# Altium footprint library Vertical Switching Board.PcbLib: 7 footprints
Each footprint in its own frame and in the unit in brackets; x right, y up, seen from the top. Pads: shape width x height; smd on the part's side, far side on the other; paste and mask are expansions set on the pad; w line width, h text height; cw(c..) or ccw(c..) is an arc to the next point about the centre after c.
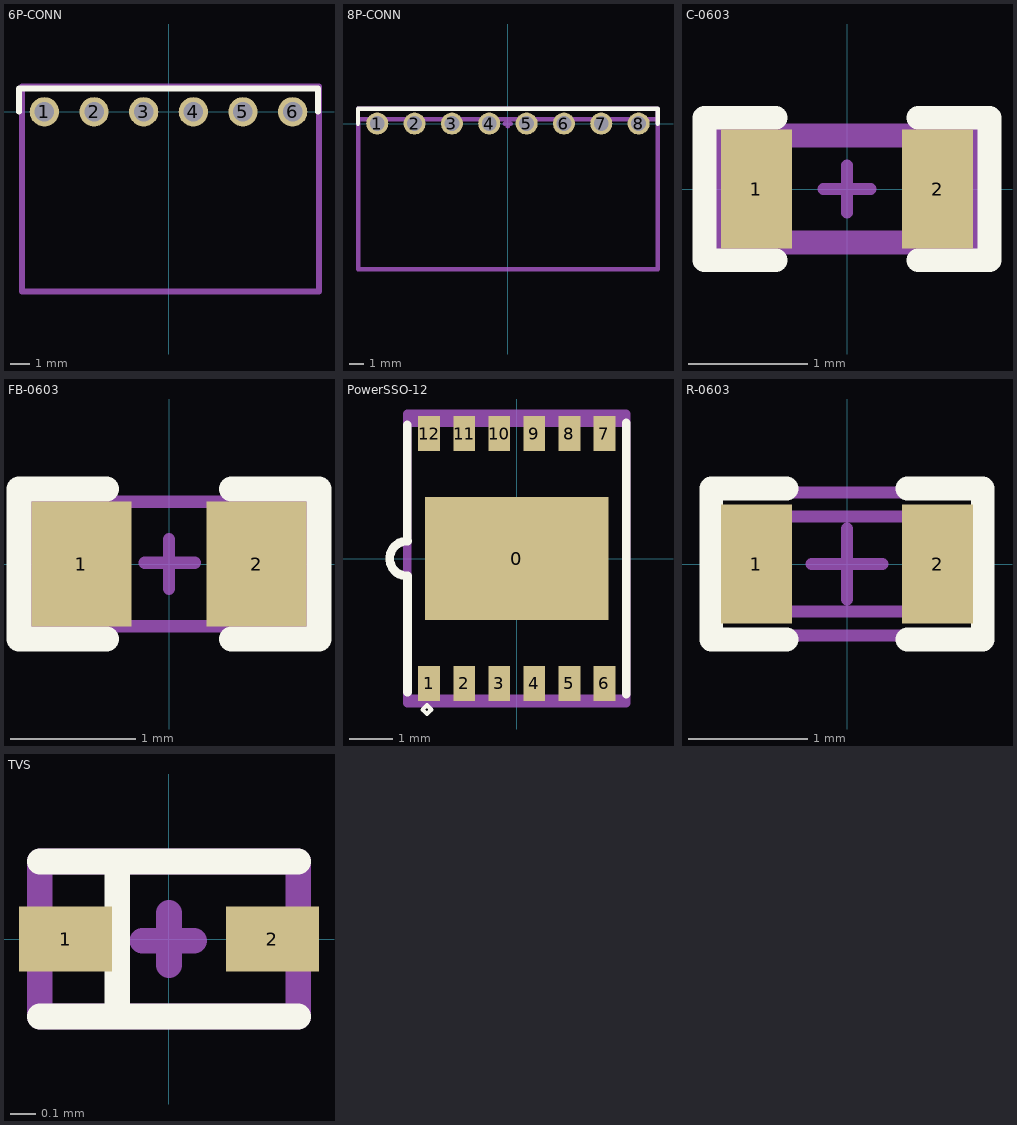
[diagram p0: the footprints below, top view; thin cyan lines are the x and y axes]

## 6P-CONN [mm]
pads (6):
  round 1.5 hole 1 mask+0.005: 1(-6.35,0) 2(-3.81,0) 3(-1.27,0) 4(1.27,0) 5(3.81,0) 6(6.35,0)
Top Overlay:
  lines w0.3: -7.65,0 -7.65,1.2 7.65,1.2 7.65,0
Top 3D Body:
  lines w0.3: -7.5,-9.2 7.7,-9.2 7.7,1.3 -7.5,1.3 -7.5,-9.2
Top Component Center:
  lines w0.3: -7.5,-9.2 -7.5,1.3 7.7,1.3 7.7,-9.2 -7.5,-9.2
Top Designator:
  lines w0.3: -7.5,-9.2 -7.5,1.3 7.7,1.3 7.7,-9.2 -7.5,-9.2
  text ".Designator" at -11.05,-1.617 h2.5
3D body "022287060.stp": height 4.79, standoff -2.57, extent -7.62,-9.169 7.62,1.245

## 8P-CONN [mm]
pads (8):
  round 1.5 hole 1 mask+0.005: 1(-8.89,0) 2(-6.35,0) 3(-3.81,0) 4(-1.27,0) 5(1.27,0) 6(3.81,0) 7(6.35,0) 8(8.89,0)
Top Overlay:
  lines w0.3: -10.2,0 -10.2,1 10.2,1 10.2,0
Top 3D Body:
  lines w0.3: -10.19,-9.9 -10.19,0.3 10.21,0.3 10.21,-9.9 -10.19,-9.9
Top Component Center:
  lines w0.3: -0.205,-0.009 0.195,-0.009 ; 0,-0.2 0,0.2 ; -10.2,-9.9 -10.2,1 10.2,1 10.2,-9.9 -10.2,-9.9
Top Designator:
  lines w0.3: -10.2,-9.9 -10.2,1 10.2,1 10.2,-9.9 -10.2,-9.9
  text ".Designator" at -11.35,3.083 h2.5
3D body "_ _ _C008SBAN-M71RC.STEP": height 4.29, standoff -1.3, extent -10.19,-9.88 10.13,0.3

## C-0603 [mm]
pads (2):
  rect 0.6x1 smd mask+0.005: 1(-0.762,0) 2(0.762,0)
Top Overlay:
  lines w0.2: -0.6,-0.6 -1.2,-0.6 -1.2,0.6 -0.6,0.6 ; 0.6,-0.6 1.2,-0.6 1.2,0.6 0.6,0.6
Top 3D Body:
  lines w0.1: -0.8,-0.4 -0.8,0.4 0.8,0.4 0.8,-0.4 -0.8,-0.4
Top Component Center:
  lines w0.1: -0.2,0 0.2,0 ; 0,-0.2 0,0.2 ; -1.1,-0.5 -1.1,0.5 1.1,0.5 1.1,-0.5 -1.1,-0.5
Top Designator:
  lines w0.1: -1.1,-0.5 1.1,-0.5 1.1,0.5 -1.1,0.5 -1.1,-0.5
  text ".Designator" at -0.55,-0.017 h0.1
3D body "User Library-CR1608-0603.STEP": height 0.45, standoff 0, extent -0.8,-0.4 0.8,0.4

## FB-0603 [mm]
pads (2):
  rect 0.8x1 smd mask+0.005: 1(-0.7,0) 2(0.7,0)
Top Overlay:
  lines w0.2: -0.5,-0.6 -1.2,-0.6 -1.2,0.6 -0.5,0.6 ; 0.5,-0.6 1.2,-0.6 1.2,0.6 0.5,0.6
Top 3D Body:
  lines w0.1: -0.8,-0.5 -0.8,0.5 0.8,0.5 0.8,-0.5 -0.8,-0.5
Top Component Center:
  lines w0.1: -0.193,0.011 0.207,0.011 ; 0,-0.2 0,0.2 ; -1.1,-0.5 -1.1,0.5 1.1,0.5 1.1,-0.5 -1.1,-0.5
Top Designator:
  lines w0.1: -1.1,-0.5 -1.1,0.5 1.1,0.5 1.1,-0.5 -1.1,-0.5
  text ".Designator" at -1.65,-0.183 h0.5
3D body "GCM188D70J106ME36J.STEP": height 0.8, standoff 0, extent -0.8,-0.5 0.8,0.5

## PowerSSO-12 [mm]
pads (13):
  rect 4.2x2.8 smd mask+0.005: 0(0,0)
  rect 0.5x0.8 smd mask+0.005: 1(-2,-2.85) 2(-1.2,-2.85) 3(-0.4,-2.85) 4(0.4,-2.85) 5(1.2,-2.85) 6(2,-2.85) 7(2,2.85) 8(1.2,2.85) 9(0.4,2.85) 10(-0.4,2.85) 11(-1.2,2.85) 12(-2,2.85)
Top Overlay:
  lines w0.1: -2.15,-3.45 -2.05,-3.55 -1.95,-3.45 -2.05,-3.35 -2.15,-3.45
  lines w0.2: -2.5,0.4 -2.5,3.05 ; -2.497,-3.05 -2.497,-0.4 cw(c-2.5,0) -2.497,0.4 ; 2.5,-3.1 2.5,3.1
Top 3D Body:
  lines w0.2: -2.5,-3.2 2.5,-3.2 2.5,3.1 -2.5,3.1 -2.5,-3.2
Top Component Center:
  lines w0.2: -0.5,0 0.5,0 ; 0,-0.5 0,0.5 ; -2.5,-3.3 2.5,-3.3 2.5,3.3 -2.5,3.3 -2.5,-3.3
Top Designator:
  lines w0.2: -2.5,-3.3 -2.5,3.3 2.5,3.3 2.5,-3.3 -2.5,-3.3
  text ".Designator" at -4.8,1.133 h1
3D body "VN5016AJ-E.sldprt": height 1.64, standoff 0, extent -2.5,-3.15 2.5,3.05

## R-0603 [mm]
pads (2):
  rect 0.6x1 smd mask+0.005: 1(-0.762,0) 2(0.762,0)
Top Overlay:
  lines w0.2: -0.508,-0.635 -1.143,-0.635 -1.143,0.635 -0.508,0.635 ; 0.508,-0.635 1.143,-0.635 1.143,0.635 0.508,0.635
Top 3D Body:
  lines w0.1: -0.8,-0.4 0.8,-0.4 0.8,0.4 -0.8,0.4 -0.8,-0.4
Top Component Center:
  lines w0.1: -0.3,0 0.3,0 ; 0,-0.3 0,0.3 ; -1.1,-0.6 1.1,-0.6 1.1,0.6 -1.1,0.6 -1.1,-0.6
Top Designator:
  lines w0.1: -1.1,-0.6 1.1,-0.6 1.1,0.6 -1.1,0.6 -1.1,-0.6
  text ".Designator" at -2.499,0.733 h0.5
3D body "CircuitWorks-RESISTOR 0603.sldprt": height 0.48, standoff -0.03, extent -0.8,-0.43 0.8,0.43

## TVS [mm]
pads (2):
  rect 0.36x0.25 smd mask+0.005: 1(-0.4,0) 2(0.4,0)
Top Overlay:
  lines w0.1: -0.5,-0.3 0.5,-0.3 ; -0.5,0.3 0.5,0.3 ; -0.2,-0.3 -0.2,0.3
Top 3D Body:
  lines w0.1: -0.5,-0.3 -0.5,0.3 0.5,0.3 0.5,-0.3 -0.5,-0.3
Top Component Center:
  lines w0.1: -0.103,-0.007 0.097,-0.007 ; 0,-0.1 0,0.1 ; -0.5,-0.3 -0.5,0.3 0.5,0.3 0.5,-0.3 -0.5,-0.3
Top Designator:
  lines w0.1: -0.5,-0.3 0.5,-0.3 0.5,0.3 -0.5,0.3 -0.5,-0.3
  text ".Designator" at -0.48,0.053 h0.1
3D body "ESD9B5.0ST5G.step": height 0.4, standoff 0, extent -0.5,-0.3 0.5,0.3